# EAGLE library part MCP23017 (library Kolja)
Mouser: MCP23017-E/SO, 1,07€
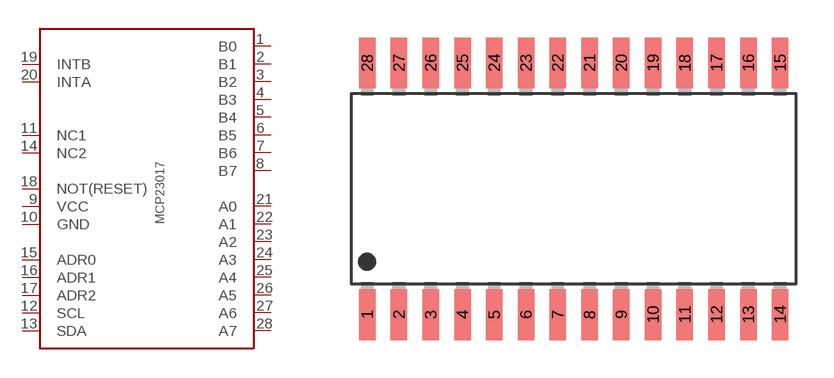
[diagram p13: symbol with the pads of SOIC28; footprint SOIC28]

Designator prefix -

## MCP23017  [SOIC28]
1  B0
2  B1
3  B2
4  B3
5  B4
6  B5
7  B6
8  B7
9  VCC
10  GND
11  NC1
12  SCL
13  SDA
14  NC2
15  ADR0
16  ADR1
17  ADR2
18  NOT(RESET)
19  INTB
20  INTA
21  A0
22  A1
23  A2
24  A3
25  A4
26  A5
27  A6
28  A7

## Footprint SOIC28 (pad centres in mm)
smd 0.66 x 2.032: 1 -8.255,-5.029; 2 -6.985,-5.029; 3 -5.715,-5.029; 4 -4.445,-5.029; 5 -3.175,-5.029; 6 -1.905,-5.029; 7 -0.635,-5.029; 8 0.635,-5.029; 9 1.905,-5.029; 10 3.175,-5.029; 11 4.445,-5.029; 12 5.715,-5.029; 13 6.985,-5.029; 14 8.255,-5.029; 15 8.255,5.029; 16 6.985,5.029; 17 5.715,5.029; 18 4.445,5.029; 19 3.175,5.029; 20 1.905,5.029; 21 0.635,5.029; 22 -0.635,5.029; 23 -1.905,5.029; 24 -3.175,5.029; 25 -4.445,5.029; 26 -5.715,5.029; 27 -6.985,5.029; 28 -8.255,5.029